# Altium schematic symbol library RES_470_0805W.SCHLIB: 1 symbol
Pins are listed as number, name and electrical type; pins without a type are passive.

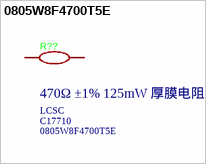
[diagram p0: symbol 0805W8F4700T5E]

## 0805W8F4700T5E
designator R??, comment Supplier: LCSC  Manufacturer Part: 0805W8F4700T5E  Supplier Part: C17710  LCSC Part Name: 470Ω ±1% 125mW 厚膜电阻  (hidden comment: 470Ω)
Manufacturer: UNI-ROYAL(厚声); Add into BOM: yes; Tolerance: ±1%; Power(Watts): 125mW; Voltage-Supply(Max): 150V; Temperature Coefficient: ±100ppm/℃; Symbol: 0805W8F4700T5E; Device: 0805W8F4700T5E; Supplier Footprint: 0805; JLCPCB Part Class: Basic Part; Datasheet: https://item.szlcsc.com/datasheet/0805W8F4700T5E/18398.html; Convert to PCB: yes; Type: Thick Film Resistor; Value: 470Ω; Operating Temperature: -55℃~+155℃
footprint R0805
3D model R0805_L2.0-W1.3-H0.6
pins: 1, 2